# Altium footprint library TANTAL_C.PcbLib: 1 footprints
Each footprint in its own frame and in the unit in brackets; x right, y up, seen from the top. Pads: shape width x height; smd on the part's side, far side on the other; paste and mask are expansions set on the pad; w line width, h text height; cw(c..) or ccw(c..) is an arc to the next point about the centre after c.
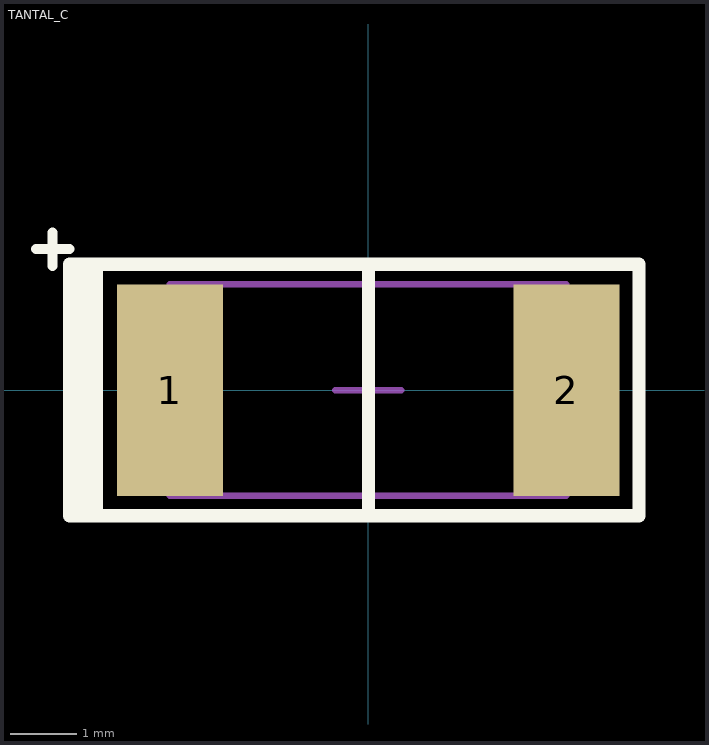
[diagram p0: the footprint, top view; thin cyan lines are the x and y axes]

## TANTAL_C [mm]
height 2.5
pads (3):
  rect 1.6x3.2 smd: 1(-3,0) 2(3,0)
  round 0.5 on Mech1: ""(-2.5,1.1)
Top Overlay:
  rectangle: -4.521,-1.88 -4.013,1.905
  lines w0.15: -5.029,2.134 -4.521,2.134 ; -4.775,1.88 -4.775,2.388
  lines w0.2: 0.005,-1.9 0.005,1.9 ; -4.521,-1.9 -4.521,1.905 4.1,1.905 4.1,-1.9 -4.521,-1.9
Mechanical 1:
  lines w0.1: -3,-1.6 3,-1.6 3,1.6 -3,1.6 -3,-1.6
Mechanical 15:
  lines w0.1: -0.5,0 0.5,0 ; 0,-0.5 0,0.5 ; -4.1,-1.9 4.1,-1.9 4.1,1.9 -4.1,1.9 -4.1,-1.9
3D body "User Library-AVX_C_CASE.STEP": height 2.7, standoff 0, extent -3.05,-1.675 3.05,1.675